# EAGLE library part LMR33620CQRNXRQ1 (library LMR33620CQRNXRQ1)
Conv DC-DC 3.8V to 36V Synchronous Step Down Single-Out 1V to 24V 2A Automotive 12-Pin VQFN-HR T/R Source: Datasheet <https://www.ti.com/lit/gpn/lmr33620-q1>
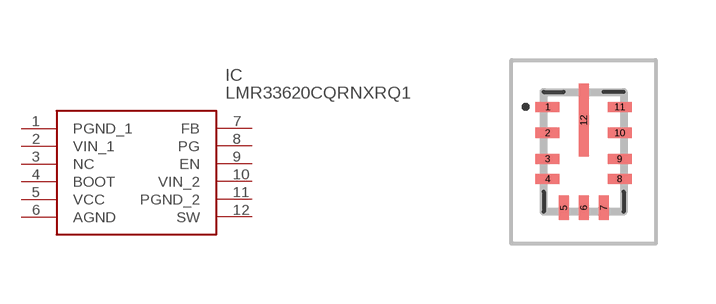
[diagram p0: symbol with the pads of LMR36015FSCQRNXTQ1; footprint LMR36015FSCQRNXTQ1]

Designator prefix IC

## LMR33620CQRNXRQ1 (Description: Conv DC-DC 3.8V to 36V Synchronous Step Down Single-Out 1V to 24V 2A Automotive 12-Pin VQFN-HR T/R; Height: 0.9mm; Manufacturer_Name: Texas Instruments; Manufacturer_Part_Number: LMR33620CQRNXRQ1; Mouser_Part_Number: 595-LMR33620CQRNXRQ1; Mouser_Price-Stock: https://www.mouser.co.uk/ProductDetail/Texas-Instruments/LMR33620CQRNXRQ1?qs=PqoDHHvF648ChHGHxEMweg%3D%3D)  [LMR36015FSCQRNXTQ1]
1  PGND_1
2  VIN_1
3  NC  nc
4  BOOT
5  VCC
6  AGND
7  FB
8  PG
9  EN
10  VIN_2
11  PGND_2
12  SW

## Footprint LMR36015FSCQRNXTQ1 (pad centres in mm)
RNX0012B_FFW
smd 0.6 x 0.25: 1 -0.9,1.125; 2 -0.9,0.475; 3 -0.9,-0.175; 4 -0.9,-0.675; 8 0.9,-0.675; 9 0.9,-0.175; 10 0.9,0.475; 11 0.9,1.125
smd 0.25 x 0.6: 5 -0.5,-1.4; 6 0,-1.4; 7 0.5,-1.4
smd 0.25 x 1.825: 12 0,0.788